# EAGLE library part AFE4400_RHA_40 (library AFE4400)
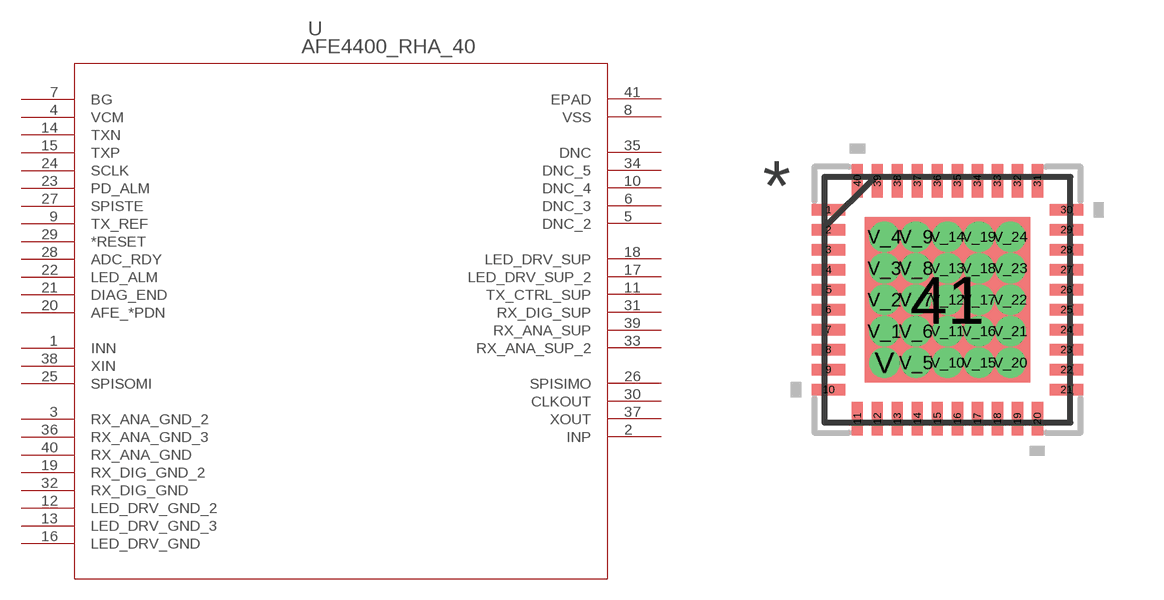
[diagram p0: symbol with the pads of RHA40_4P15X4P15; footprint RHA40_4P15X4P15]

Designator prefix U

## AFE4400_RHA_40 (MANUFACTURER_PART_NUMBER: afe4400_rha_40; VENDOR: Texas Instruments)  [RHA40_4P15X4P15]
1  INN  in
2  INP  in
3  RX_ANA_GND_2  pwr
4  VCM  in
5  DNC_2  nc
6  DNC_3  nc
7  BG  pas
8  VSS  pwr
9  TX_REF  pas
10  DNC_4  nc
11  TX_CTRL_SUP  pas
12  LED_DRV_GND_2  pas
13  LED_DRV_GND_3  pas
14  TXN  out
15  TXP  out
16  LED_DRV_GND  pas
17  LED_DRV_SUP_2  pas
18  LED_DRV_SUP  pas
19  RX_DIG_GND_2  pas
20  AFE_*PDN  in
21  DIAG_END  out
22  LED_ALM  out
23  PD_ALM  out
24  SCLK  pas
25  SPISOMI  in
26  SPISIMO  out
27  SPISTE  pas
28  ADC_RDY  out
29  *RESET  in
30  CLKOUT  out
31  RX_DIG_SUP  pas
32  RX_DIG_GND  pas
33  RX_ANA_SUP_2  pas
34  DNC_5  nc
35  DNC  nc
36  RX_ANA_GND_3  pas
37  XOUT  out
38  XIN  in
39  RX_ANA_SUP  pas
40  RX_ANA_GND  pas
41  EPAD  pas

## Footprint RHA40_4P15X4P15 (pad centres in mm)
smd 0.838 x 0.279: 1 -2.975,2.25; 2 -2.975,1.75; 3 -2.975,1.25; 4 -2.975,0.75; 5 -2.975,0.25; 6 -2.975,-0.25; 7 -2.975,-0.75; 8 -2.975,-1.25; 9 -2.975,-1.75; 10 -2.975,-2.25; 21 2.975,-2.25; 22 2.975,-1.75; 23 2.975,-1.25; 24 2.975,-0.75; 25 2.975,-0.25; 26 2.975,0.25; 27 2.975,0.75; 28 2.975,1.25; 29 2.975,1.75; 30 2.975,2.25
smd 0.279 x 0.838: 11 -2.251,-2.975; 12 -1.75,-2.975; 13 -1.25,-2.975; 14 -0.75,-2.975; 15 -0.25,-2.975; 16 0.25,-2.975; 17 0.75,-2.975; 18 1.25,-2.975; 19 1.75,-2.975; 20 2.251,-2.975; 31 2.251,2.975; 32 1.75,2.975; 33 1.25,2.975; 34 0.75,2.975; 35 0.25,2.975; 36 -0.25,2.975; 37 -0.75,2.975; 38 -1.25,2.975; 39 -1.75,2.975; 40 -2.251,2.975
smd 4.14 x 4.14: 41 0,0
drill 0.254: V -1.575,-1.575; V_1 -1.575,-0.787; V_2 -1.575,0; V_3 -1.575,0.787; V_4 -1.575,1.575; V_5 -0.787,-1.575; V_6 -0.787,-0.787; V_7 -0.787,0; V_8 -0.787,0.787; V_9 -0.787,1.575; V_10 0,-1.575; V_11 0,-0.787; V_12 0,0; V_13 0,0.787; V_14 0,1.575; V_15 0.787,-1.575; V_16 0.787,-0.787; V_17 0.787,0; V_18 0.787,0.787; V_19 0.787,1.575; V_20 1.575,-1.575; V_21 1.575,-0.787; V_22 1.575,0; V_23 1.575,0.787; V_24 1.575,1.575